# Altium footprint library DBL101HB.PcbLib: 1 footprints
Each footprint in its own frame and in the unit in brackets; x right, y up, seen from the top. Pads: shape width x height; smd on the part's side, far side on the other; paste and mask are expansions set on the pad; w line width, h text height; cw(c..) or ccw(c..) is an arc to the next point about the centre after c.
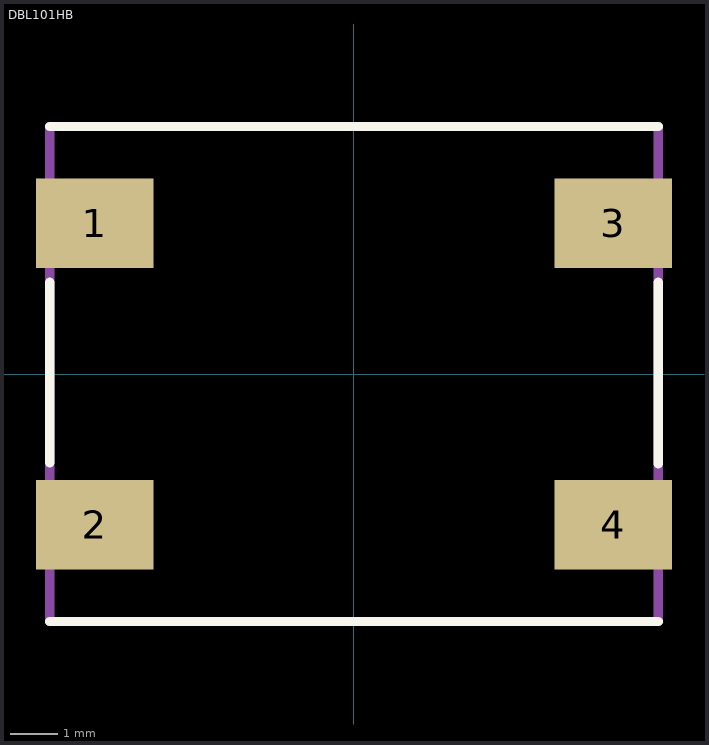
[diagram p0: the footprint, top view; thin cyan lines are the x and y axes]

## DBL101HB [mm] "Dual Coil Class D SMD Inductor"
height 10.7
pads (4):
  rect 2.5x1.9 smd: 1(-5.5,3.2) 2(-5.5,-3.2) 3(5.5,3.2) 4(5.5,-3.2)
Top Overlay:
  lines w0.2: -6.45,-5.25 6.45,-5.25 ; -6.45,-1.88 -6.45,1.95 ; -6.45,5.25 6.45,5.25 ; 6.45,-1.902 6.45,1.95
Mechanical 15:
  lines w0.2: -6.45,-5.25 6.45,-5.25 6.45,5.25 -6.45,5.25 -6.45,-5.25
3D body: height 10.7, standoff 0, extent -6.45,-5.25 6.45,5.25